# EAGLE library part RFM69HCW (library library)
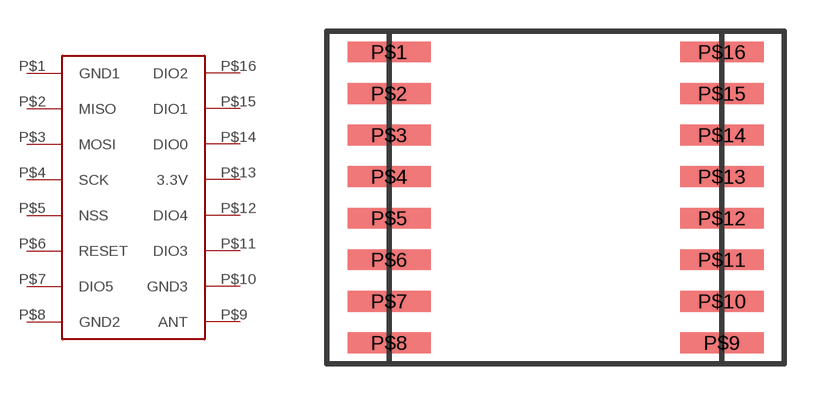
[diagram p1: symbol with the pads of RFM69HCW; footprint RFM69HCW]

Designator prefix U

## RFM69HCW  [RFM69HCW]
P$1  GND1  pwr
P$2  MISO
P$3  MOSI
P$4  SCK
P$5  NSS  in
P$6  RESET  in
P$7  DIO5
P$8  GND2  pwr
P$9  ANT
P$10  GND3  pwr
P$11  DIO3
P$12  DIO4
P$13  3.3V  pwr
P$14  DIO0
P$15  DIO1
P$16  DIO2

## Footprint RFM69HCW (pad centres in mm)
smd 4 x 1: P$1 -8,7; P$2 -8,5; P$3 -8,3; P$4 -8,1; P$5 -8,-1; P$6 -8,-3; P$7 -8,-5; P$8 -8,-7; P$9 8,-7; P$10 8,-5; P$11 8,-3; P$12 8,-1; P$13 8,1; P$14 8,3; P$15 8,5; P$16 8,7